# EAGLE library part 54601-908WPLF (library basisplatine_lib)
Modular Connectors / Ethernet Connectors 8P8C CAT 3 MOD JACK HORIZ. 1 PORT Source: Datasheet <https://www.amphenol-icc.com/media/wysiwyg/files/drawing/c-bmj-0051.pdf>
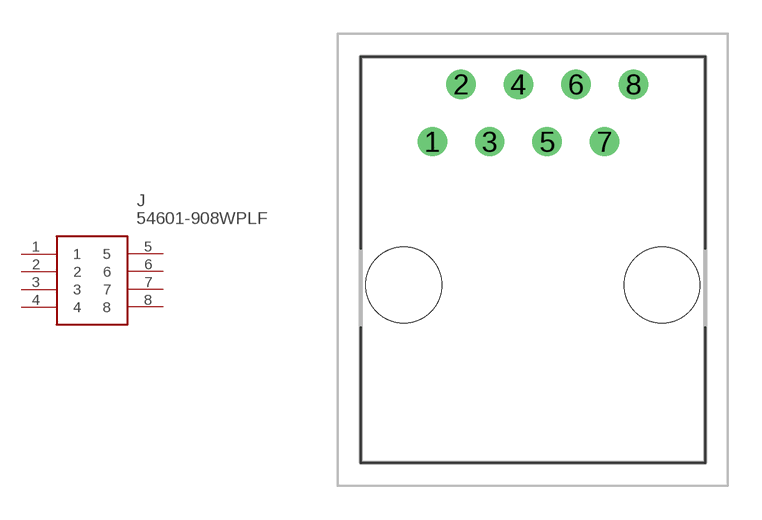
[diagram p5: symbol with the pads of 54601908WPLF; footprint 54601908WPLF]

Designator prefix J

## 54601-908WPLF (DESCRIPTION: Modular Connectors / Ethernet Connectors 8P8C CAT 3 MOD JACK HORIZ. 1 PORT; HEIGHT: 11.6mm; MANUFACTURER_NAME: Amphenol; MANUFACTURER_PART_NUMBER: 54601-908WPLF; MOUSER_PART_NUMBER: 649-54601-908WPLF; MOUSER_PRICE-STOCK: https://www.mouser.com/Search/Refine.aspx?Keyword=649-54601-908WPLF)  [54601908WPLF]
1  1
2  2
3  3
4  4
5  5
6  6
7  7
8  8

## Footprint 54601908WPLF (pad centres in mm)
54601-908WPLF-1
drill 0.76 pad 1.303: 1 0,0; 2 1.27,2.54; 3 2.54,0; 4 3.81,2.54; 5 5.08,0; 6 6.35,2.54; 7 7.62,0; 8 8.89,2.54
hole 3.35 at -1.271,-6.35
hole 3.35 at 10.161,-6.35